# EAGLE library part STM32-H103 (library libSheldonDrone)
Olimex STM32-H103 board
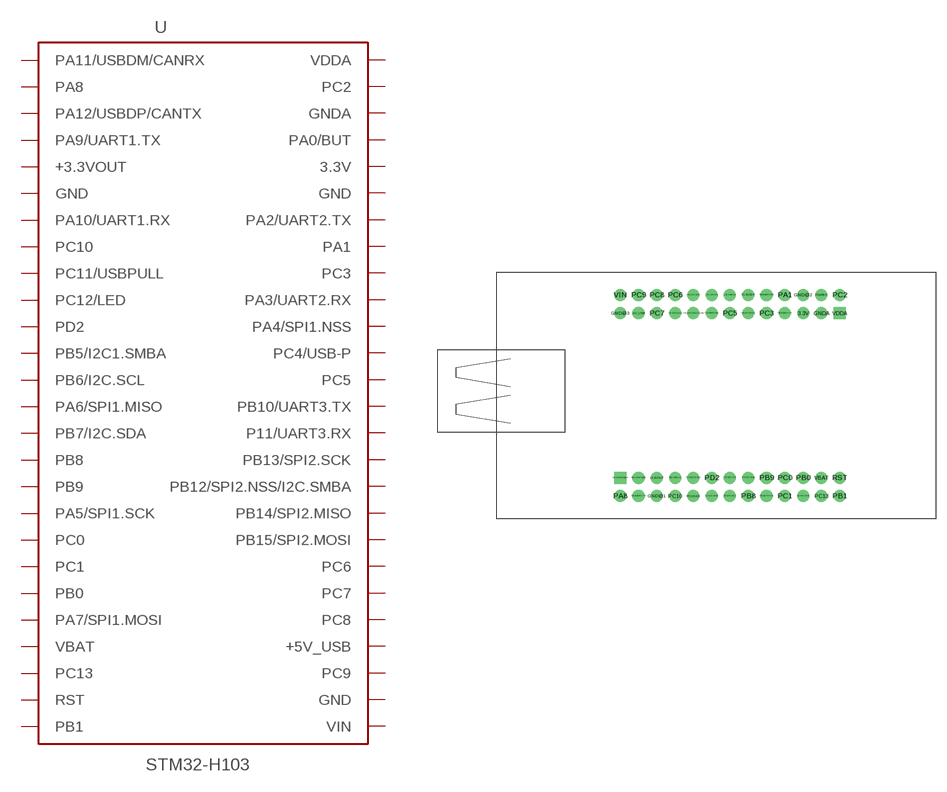
[diagram p2: symbol with the pads of STM32-H103; footprint STM32-H103]

Designator prefix -

## STM32-H103  [STM32-H103]
3.3V  3.3V
+3.3VOUT  +3.3VOUT
+5V_USB  +5V_USB
GND@1  GND
GND@2  GND
GND@3  GND
GNDA  GNDA
P11/UART3.RX  P11/UART3.RX
PA0/BUT  PA0/BUT
PA1  PA1
PA2/UART2.TX  PA2/UART2.TX
PA3/UART2.RX  PA3/UART2.RX
PA4/SPI1.NSS  PA4/SPI1.NSS
PA5/SPI1.SCK  PA5/SPI1.SCK
PA6/SPI1.MISO  PA6/SPI1.MISO
PA7/SPI1.MOSI  PA7/SPI1.MOSI
PA8  PA8
PA9/UART1.TX  PA9/UART1.TX
PA10/UART1.RX  PA10/UART1.RX
PA11/USBDM/CANRX  PA11/USBDM/CANRX
PA12/USBDP/CANTX  PA12/USBDP/CANTX
PB0  PB0
PB1  PB1
PB5/I2C1.SMBA  PB5/I2C1.SMBA
PB6/I2C.SCL  PB6/I2C.SCL
PB7/I2C.SDA  PB7/I2C.SDA
PB8  PB8
PB9  PB9
PB10/UART3.TX  PB10/UART3.TX
PB12/SPI2.NSS/I2C.SMBA  PB12/SPI2.NSS/I2C.SMBA
PB13/SPI2.SCK  PB13/SPI2.SCK
PB14/SPI2.MISO  PB14/SPI2.MISO
PB15/SPI2.MOSI  PB15/SPI2.MOSI
PC0  PC0
PC1  PC1
PC2  PC2
PC3  PC3
PC4/USB-P  PC4/USB-P
PC5  PC5
PC6  PC6
PC7  PC7
PC8  PC8
PC9  PC9
PC10  PC10
PC11/USBPULL  PC11/USBPULL
PC12/LED  PC12/LED
PC13  PC13
PD2  PD2
RST  RST
VBAT  VBAT
VDDA  VDDA
VIN  VIN

## Footprint STM32-H103 (pad centres in mm)
drill 0.8 pad 1.676: 3.3V 25.4,-2.54; +3.3VOUT 5.08,-25.4; +5V_USB 2.54,-2.54; GND@1 5.08,-27.94; GND@2 25.4,0; GND@3 0,-2.54; GNDA 27.94,-2.54; P11/UART3.RX 12.7,-2.54; PA0/BUT 27.94,0; PA1 22.86,0; PA2/UART2.TX 22.86,-2.54; PA3/UART2.RX 20.32,0; PA4/SPI1.NSS 17.78,-2.54; PA5/SPI1.SCK 20.32,-27.94; PA6/SPI1.MISO 15.24,-27.94; PA7/SPI1.MOSI 25.4,-27.94; PA8 0,-27.94; PA9/UART1.TX 2.54,-27.94; PA10/UART1.RX 7.62,-25.4; PA12/USBDP/CANTX 2.54,-25.4; PB0 25.4,-25.4; PB1 30.48,-27.94; PB5/I2C1.SMBA 12.7,-27.94; PB6/I2C.SCL 15.24,-25.4; PB7/I2C.SDA 17.78,-25.4; PB8 17.78,-27.94; PB9 20.32,-25.4; PB10/UART3.TX 15.24,0; PB12/SPI2.NSS/I2C.SMBA 10.16,-2.54; PB13/SPI2.SCK 12.7,0; PB14/SPI2.MISO 10.16,0; PB15/SPI2.MOSI 7.62,-2.54; PC0 22.86,-25.4; PC1 22.86,-27.94; PC2 30.48,0; PC3 20.32,-2.54; PC4/USB-P 17.78,0; PC5 15.24,-2.54; PC6 7.62,0; PC7 5.08,-2.54; PC8 5.08,0; PC9 2.54,0; PC10 7.62,-27.94; PC11/USBPULL 10.16,-25.4; PC12/LED 10.16,-27.94; PC13 27.94,-27.94; PD2 12.7,-25.4; RST 30.48,-25.4; VBAT 27.94,-25.4; VIN 0,0
drill 0.8 pad 1.676 square: PA11/USBDM/CANRX 0,-25.4; VDDA 30.48,-2.54